# Altium schematic symbol library xNEO-16.SchLib: 1 symbol
Pins are listed as number, name and electrical type; pins without a type are passive.

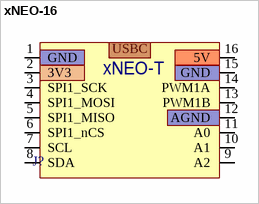
[diagram p0: symbol xNEO-16]

## xNEO-16
designator J?
pins: 1 GND, 2 3V3, 3 SPI1_SCK, 4 SPI1_MOSI, 5 SPI1_MISO, 6 SPI1_nCS, 7 SCL, 8 SDA, 9 A2, 10 A1, 11 A0, 12 AGND, 13 PWM1B, 14 PWM1A, 15 GND, 16 5V
text: USBC; xNEO-T